# Altium schematic symbol library INA225AIDGKR.Schlib: 1 symbol
Pins are listed as number, name and electrical type; pins without a type are passive.

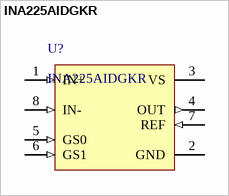
[diagram p0: symbol INA225AIDGKR]

## INA225AIDGKR
designator U?
Current Monitor Regulator High-Side 8-VSSOP
pins: 1 IN+ (in), 2 GND (power), 3 VS (power), 4 OUT (out), 5 GS0 (in), 6 GS1 (in), 7 REF (in), 8 IN- (in)